# Altium schematic symbol library AD8318.SchLib: 1 symbol
Pins are listed as number, name and electrical type; pins without a type are passive.

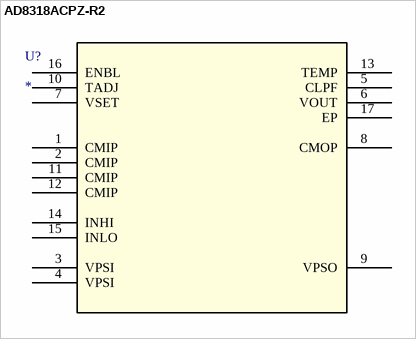
[diagram p0: symbol AD8318ACPZ-R2]

## AD8318ACPZ-R2
designator U?
1 MHz to 8 GHz, 70 dB Logarithmic Detector/Controller; Manufacturer_Part_Number: AD8318ACPZ-R2; Vendor: Vendor; Value: Value; Type: Type; RefDes: Refdes
footprint CP_16_4
pins: 1 CMIP, 2 CMIP, 3 VPSI (power), 4 VPSI (power), 5 CLPF, 6 VOUT, 7 VSET, 8 CMOP, 9 VPSO (power), 10 TADJ, 11 CMIP, 12 CMIP, 13 TEMP, 14 INHI, 15 INLO, 16 ENBL, 17 EP